# EAGLE library part HEADER_FEMALE_SMD (library raspberrystem)
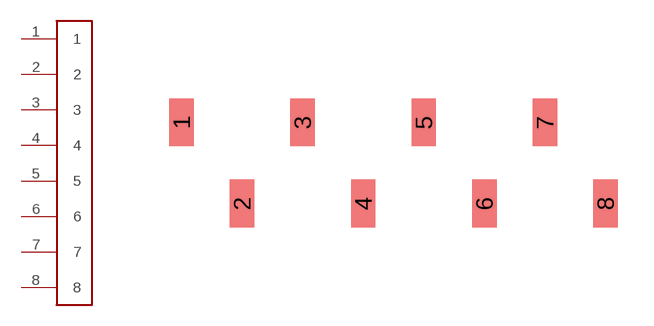
[diagram p3: symbol with the pads of HEADER_FEMALE_SMD; footprint HEADER_FEMALE_SMD]

Designator prefix -

## HEADER_FEMALE_SMD  [HEADER_FEMALE_SMD]
1  1
2  2
3  3
4  4
5  5
6  6
7  7
8  8

## Footprint HEADER_FEMALE_SMD (pad centres in mm)
smd 1.02 x 2: 1 0,1.7; 2 2.54,-1.7; 3 5.08,1.7; 4 7.62,-1.7; 5 10.16,1.7; 6 12.7,-1.7; 7 15.24,1.7; 8 17.78,-1.7